# EAGLE library part KB_A1000 (library Amiga)
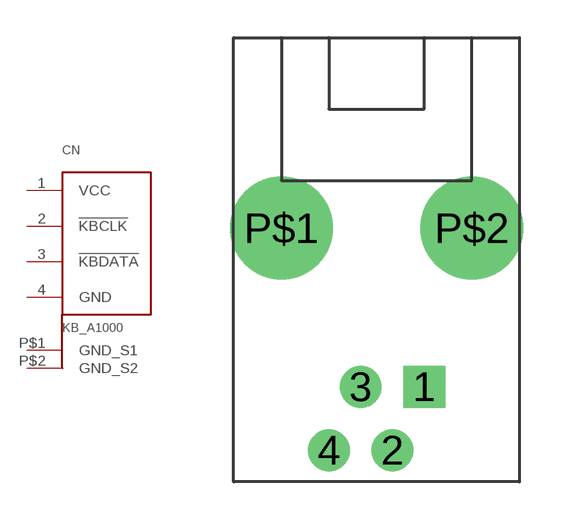
[diagram p30: symbol with the pads of RJ10; footprint RJ10]

Designator prefix CN

## KB_A1000  [RJ10]
1  VCC  pwr
2  !KBCLK
3  !KBDATA
4  GND  pwr
P$1  GND_S1  pwr
P$2  GND_S2  pwr

## Footprint RJ10 (pad centres in mm)
drill 1 pad 1.676 square: 1 1.905,-6.35
drill 1 pad 1.676: 2 0.635,-8.89; 3 -0.635,-6.35; 4 -1.905,-8.89
drill 3.1 pad 3.5: P$1 -3.81,0; P$2 3.81,0